# EAGLE library part CY8C3865PVI-060 (library NewSDR)
Cypress Programmable System-on-Chip 32 KB FLASH
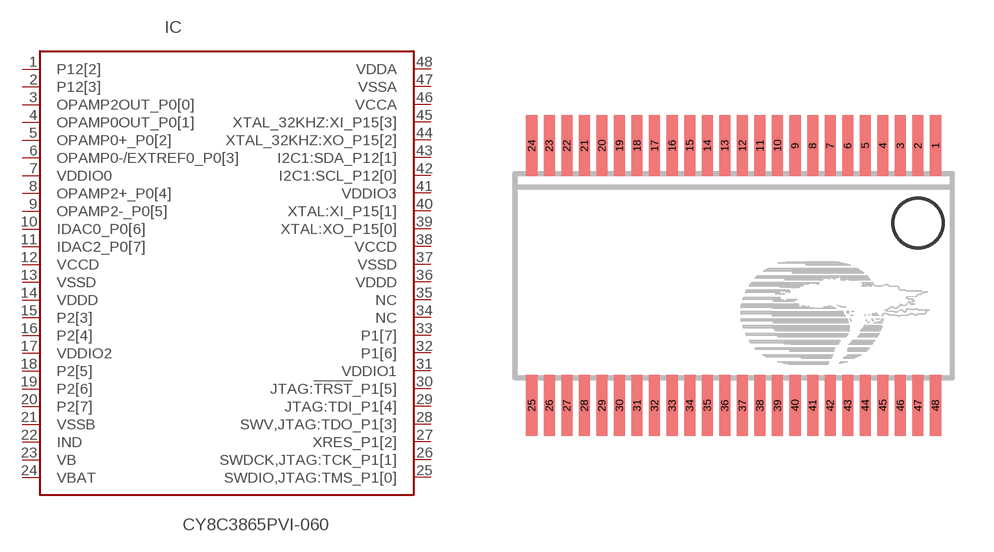
[diagram p192: symbol with the pads of SSOP48; footprint SSOP48]

Designator prefix IC

## CY8C3865PVI-060  [SSOP48]
1  P12[2]
2  P12[3]
3  OPAMP2OUT_P0[0]
4  OPAMP0OUT_P0[1]
5  OPAMP0+_P0[2]
6  OPAMP0-/EXTREF0_P0[3]
7  VDDIO0  pwr
8  OPAMP2+_P0[4]
9  OPAMP2-_P0[5]
10  IDAC0_P0[6]
11  IDAC2_P0[7]
12  VCCD  pwr
13  VSSD  pwr
14  VDDD  pwr
15  P2[3]
16  P2[4]
17  VDDIO2  pwr
18  P2[5]
19  P2[6]
20  P2[7]
21  VSSB
22  IND
23  VB
24  VBAT  pwr
25  SWDIO,JTAG:TMS_P1[0]
26  SWDCK,JTAG:TCK_P1[1]
27  XRES_P1[2]
28  SWV,JTAG:TDO_P1[3]
29  JTAG:TDI_P1[4]
30  JTAG:!TRST!_P1[5]
31  VDDIO1  pwr
32  P1[6]
33  P1[7]
34  NC  nc
35  NC  nc
36  VDDD  pwr
37  VSSD  pwr
38  VCCD  pwr
39  XTAL:XO_P15[0]
40  XTAL:XI_P15[1]
41  VDDIO3  pwr
42  I2C1:SCL_P12[0]
43  I2C1:SDA_P12[1]
44  XTAL_32KHZ:XO_P15[2]
45  XTAL_32KHZ:XI_P15[3]
46  VCCA  pwr
47  VSSA  pwr
48  VDDA  pwr

## Footprint SSOP48 (pad centres in mm)
Shrunk Small Outline Package with 48 pins
smd 0.4 x 2.2: 1 6.859,4.573; 2 6.223,4.573; 3 5.588,4.573; 4 4.954,4.573; 5 4.319,4.573; 6 3.683,4.573; 7 3.049,4.573; 8 2.413,4.573; 9 1.778,4.573; 10 1.143,4.573; 11 0.508,4.573; 12 -0.127,4.573; 13 -0.762,4.573; 14 -1.397,4.573; 15 -2.033,4.573; 16 -2.667,4.573; 17 -3.303,4.573; 18 -3.938,4.573; 19 -4.572,4.573; 20 -5.207,4.573; 21 -5.843,4.573; 22 -6.478,4.573; 23 -7.112,4.573; 24 -7.747,4.573; 25 -7.747,-4.827; 26 -7.112,-4.827; 27 -6.478,-4.827; 28 -5.843,-4.827; 29 -5.207,-4.827; 30 -4.572,-4.827; 31 -3.938,-4.827; 32 -3.303,-4.827; 33 -2.667,-4.827; 34 -2.033,-4.827; 35 -1.397,-4.827; 36 -0.762,-4.827; 37 -0.127,-4.827; 38 0.508,-4.827; 39 1.143,-4.827; 40 1.778,-4.827; 41 2.413,-4.827; 42 3.049,-4.827; 43 3.683,-4.827; 44 4.319,-4.827; 45 4.954,-4.827; 46 5.588,-4.827; 47 6.223,-4.827; 48 6.859,-4.827